# Altium footprint library RS73F2BTTD2703B.PcbLib: 3 footprints
Each footprint in its own frame and in the unit in brackets; x right, y up, seen from the top. Pads: shape width x height; smd on the part's side, far side on the other; paste and mask are expansions set on the pad; w line width, h text height; cw(c..) or ccw(c..) is an arc to the next point about the centre after c.
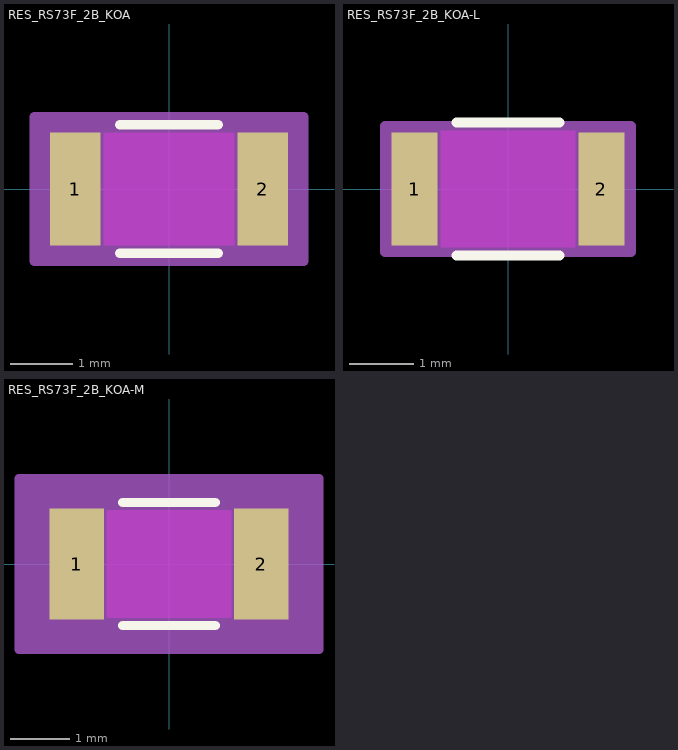
[diagram p0: the footprints below, top view; thin cyan lines are the x and y axes]

## RES_RS73F_2B_KOA [mil]
pads (2):
  rect 32x71 smd paste+0 mask+0: 1(-59,0) 2(59,0)
Top Layer keep-out:
  region: -41,-33.5 -41,33.5 41,33.5 41,-33.5
Top Overlay:
  lines w6: -30.89,-40.5 30.89,-40.5 ; -30.89,40.5 30.89,40.5
  text ".Designator" at -137.5,-25 h50
Keep-Out Layer:
  region: -41,-35.5 -41,35.5 41,35.5 41,-35.5
Mechanical 13:
  lines w1: -67,-35.5 -67,35.5 ; -67,-35.5 -43,-35.5 -43,35.5 -67,35.5 ; -67,-35.5 67,-35.5 ; -67,-35.5 -67,35.5 ; -67,35.5 67,35.5 ; 67,-35.5 43,-35.5 43,35.5 67,35.5 ; 67,-35.5 67,35.5 ; 67,-35.5 67,35.5
  text ".Designator" at -137.5,-25 h50
Mechanical 15:
  region: 85,-45.5 -85,-45.5 -85,45.5 85,45.5
  lines w6: -85,-45.5 -85,45.5 85,45.5 85,-45.5 -85,-45.5
3D body "RES_RS73F_2B_KOA.step": height 27.99, standoff 0, extent -67.01,-35.51 67.01,35.51

## RES_RS73F_2B_KOA-L [mil]
pads (2):
  rect 28x69 smd paste+0 mask+0: 1(-57,0) 2(57,0)
Top Layer keep-out:
  region: -41,-33.5 -41,33.5 41,33.5 41,-33.5
Top Overlay:
  lines w6: -31.35,-40.5 31.35,-40.5 ; -31.35,40.5 31.35,40.5
  text ".Designator" at -137.5,-25 h50
Keep-Out Layer:
  region: -41,-35.5 -41,35.5 41,35.5 41,-35.5
Mechanical 13:
  lines w1: -67,-35.5 -67,35.5 ; -67,-35.5 -43,-35.5 -43,35.5 -67,35.5 ; -67,-35.5 67,-35.5 ; -67,-35.5 -67,35.5 ; -67,35.5 67,35.5 ; 67,-35.5 43,-35.5 43,35.5 67,35.5 ; 67,-35.5 67,35.5 ; 67,-35.5 67,35.5
  text ".Designator" at -137.5,-25 h50
Mechanical 15:
  region: 75,-38.5 -75,-38.5 -75,38.5 75,38.5
  lines w6: -75,-38.5 -75,38.5 75,38.5 75,-38.5 -75,-38.5
3D body "RES_RS73F_2B_KOA.step": height 27.99, standoff 0, extent -67.01,-35.51 67.01,35.51

## RES_RS73F_2B_KOA-M [mil]
pads (2):
  rect 36x73 smd paste+0 mask+0: 1(-61,0) 2(61,0)
Top Layer keep-out:
  region: -41,-33.5 -41,33.5 41,33.5 41,-33.5
Top Overlay:
  lines w6: -30.53,-40.5 30.53,-40.5 ; -30.53,40.5 30.53,40.5
  text ".Designator" at -137.5,-25 h50
Keep-Out Layer:
  region: -41,-35.5 -41,35.5 41,35.5 41,-35.5
Mechanical 13:
  lines w1: -67,-35.5 -67,35.5 ; -67,-35.5 -43,-35.5 -43,35.5 -67,35.5 ; -67,-35.5 67,-35.5 ; -67,-35.5 -67,35.5 ; -67,35.5 67,35.5 ; 67,-35.5 43,-35.5 43,35.5 67,35.5 ; 67,-35.5 67,35.5 ; 67,-35.5 67,35.5
  text ".Designator" at -137.5,-25 h50
Mechanical 15:
  region: 99,-56.5 -99,-56.5 -99,56.5 99,56.5
  lines w6: -99,-56.5 -99,56.5 99,56.5 99,-56.5 -99,-56.5
3D body "RES_RS73F_2B_KOA.step": height 27.99, standoff 0, extent -67.01,-35.51 67.01,35.51